# Altium integrated library Maxim Peripheral Input Output Port.IntLib: 2 symbols
Pins are listed as number, name and electrical type; pins without a type are passive.

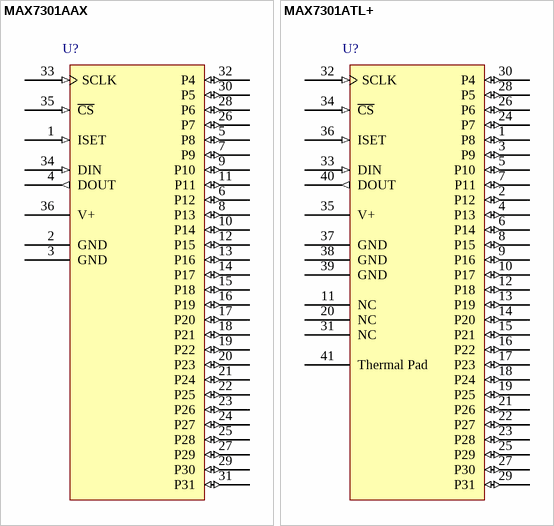
[diagram p0: symbols MAX7301AAX to MAX7301ATL+]

## MAX7301AAX
designator U?
4-Wire-Interfaced, 2.5V to 5.5V, 28-Port I/O Expander; Published: 30-May-2008; DatasheetVersion: Apr-2006; PackageVersion: revE, Jul-2002; PackageReference: A36-4; Publisher: Altium Limited; PackageDescription: 36-Pin Small Outline Package 0.8 mm Pitch; ComponentLink1Description: Manufacturer Link; ComponentLink1URL: http://www.maxim-ic.com/; ComponentLink2Description: Datasheet; ComponentLink2URL: http://datasheets.maxim-ic.com/en/ds/MAX7301.pdf
footprint A36-4_N (SOP, 36-Leads, Body 15.4x7.5mm, Pitch 0.8mm, IPC Medium Density)
footprint A36-4_L (SOP, 36-Leads, Body 15.4x7.5mm, Pitch 0.8mm, IPC High Density)
footprint A36-4_M (SOP, 36-Leads, Body 15.4x7.5mm, Pitch 0.8mm, IPC Low Density)
pins: 1 ISET (in), 2 GND (power), 3 GND (power), 4 DOUT (out), 5 P8 (io), 6 P12 (io), 7 P9 (io), 8 P13 (io), 9 P10 (io), 10 P14 (io), 11 P11 (io), 12 P15 (io), 13 P16 (io), 14 P17 (io), 15 P18 (io), 16 P19 (io), 17 P20 (io), 18 P21 (io), 19 P22 (io), 20 P23 (io), 21 P24 (io), 22 P25 (io), 23 P26 (io), 24 P27 (io), 25 P28 (io), 26 P7 (io), 27 P29 (io), 28 P6 (io), 29 P30 (io), 30 P5 (io), 31 P31 (io), 32 P4 (io), 33 SCLK (in), 34 DIN (in), 35 ~{CS} (in), 36 V+ (power)

## MAX7301ATL+
designator U?
4-Wire-Interfaced, 2.5V to 5.5V, 28-Port I/O Expander; Published: 30-May-2008; DatasheetVersion: Apr-2006; PackageVersion: revF; PackageReference: T4066-5; Publisher: Altium Limited; PackageDescription: 40-Pin Quad Flat No-Lead 0.5 mm Pitch, 4.1x4.1 mm Exposed Pad [TQFN40]; Code_JEDEC: MO-220WJJD-2; ComponentLink1Description: Manufacturer Link; ComponentLink1URL: http://www.maxim-ic.com/; ComponentLink2Description: Datasheet; ComponentLink2URL: http://datasheets.maxim-ic.com/en/ds/MAX7301.pdf
footprint T4066-5_N (QFN, 40-Leads, Body 6x6mm, Pitch 0.5mm, IPC Medium Density)
footprint T4066-5_L (QFN, 40-Leads, Body 6x6mm, Pitch 0.5mm, IPC High Density)
footprint T4066-5_M (QFN, 40-Leads, Body 6x6mm, Pitch 0.5mm, IPC Low Density)
pins: 1 P8 (io), 2 P12 (io), 3 P9 (io), 4 P13 (io), 5 P10 (io), 6 P14 (io), 7 P11 (io), 8 P15 (io), 9 P16 (io), 10 P17 (io), 11 NC, 12 P18 (io), 13 P19 (io), 14 P20 (io), 15 P21 (io), 16 P22 (io), 17 P23 (io), 18 P24 (io), 19 P25 (io), 20 NC, 21 P26 (io), 22 P27 (io), 23 P28 (io), 24 P7 (io), 25 P29 (io), 26 P6 (io), 27 P30 (io), 28 P5 (io), 29 P31 (io), 30 P4 (io), 31 NC, 32 SCLK (in), 33 DIN (in), 34 ~{CS} (in), 35 V+ (power), 36 ISET (in), 37 GND (power), 38 GND (power), 39 GND (power), 40 DOUT (out), 41 Thermal Pad